# Altium schematic symbol library 0.1_Cap_GRM022R60J104ME15L.SchLib: 1 symbol
Pins are listed as number, name and electrical type; pins without a type are passive.

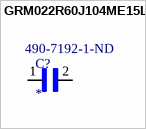
[diagram p0: symbol GRM022R60J104ME15L]

## GRM022R60J104ME15L
designator C?  Supplier Part Number 1: 490-7192-1-ND
01005 0.1 uF 6.3 V Â±20% Tolerance X5R SMT Multilayer Ceramic Capacitor; MF: Murata Electronics; MP: GRM022R60J104ME15L; Check_prices: https://www.snapeda.com/parts/GRM022R60J104ME15L/Murata%20Electronics%20North%20America/view-part/265228/?ref=eda; Price: None; SnapEDA_Link: https://www.snapeda.com/parts/GRM022R60J104ME15L/Murata%20Electronics%20North%20America/view-part/265228/?ref=snap; Availability: In Stock; Package: 0402 Murata; Value: *; Supplier 1: Digi-Key
footprint CAPC0402X22N
pins: 1, 2